# EAGLE library part FM25V01 (library tmxk)
FM25V01 128Kb Serial 3V F-RAM Memory
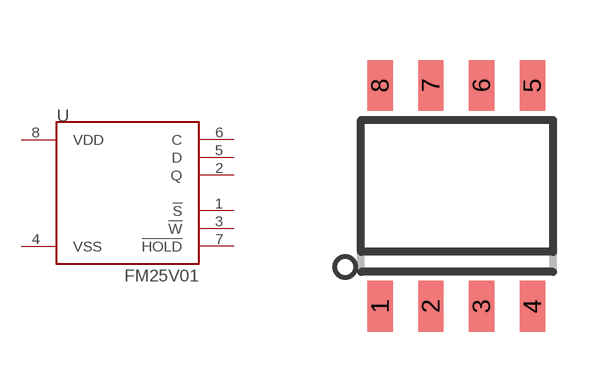
[diagram p37: symbol with the pads of SOP8; footprint SOP8]

Designator prefix U

## FM25V01  [SOP8]
1  !S
2  Q
3  !W
4  VSS
5  D
6  C
7  !HOLD
8  VDD

## Footprint SOP8 (pad centres in mm)
Small Outline Package 8 NS Package M08A
smd 0.635 x 1.27: 1 -1.925,-2.76; 2 -0.655,-2.76; 3 0.615,-2.76; 4 1.885,-2.76; 5 1.885,2.76; 6 0.615,2.76; 7 -0.655,2.76; 8 -1.925,2.76